# Altium integrated library robo_cam.IntLib: 230 symbols (part 4 of 5)
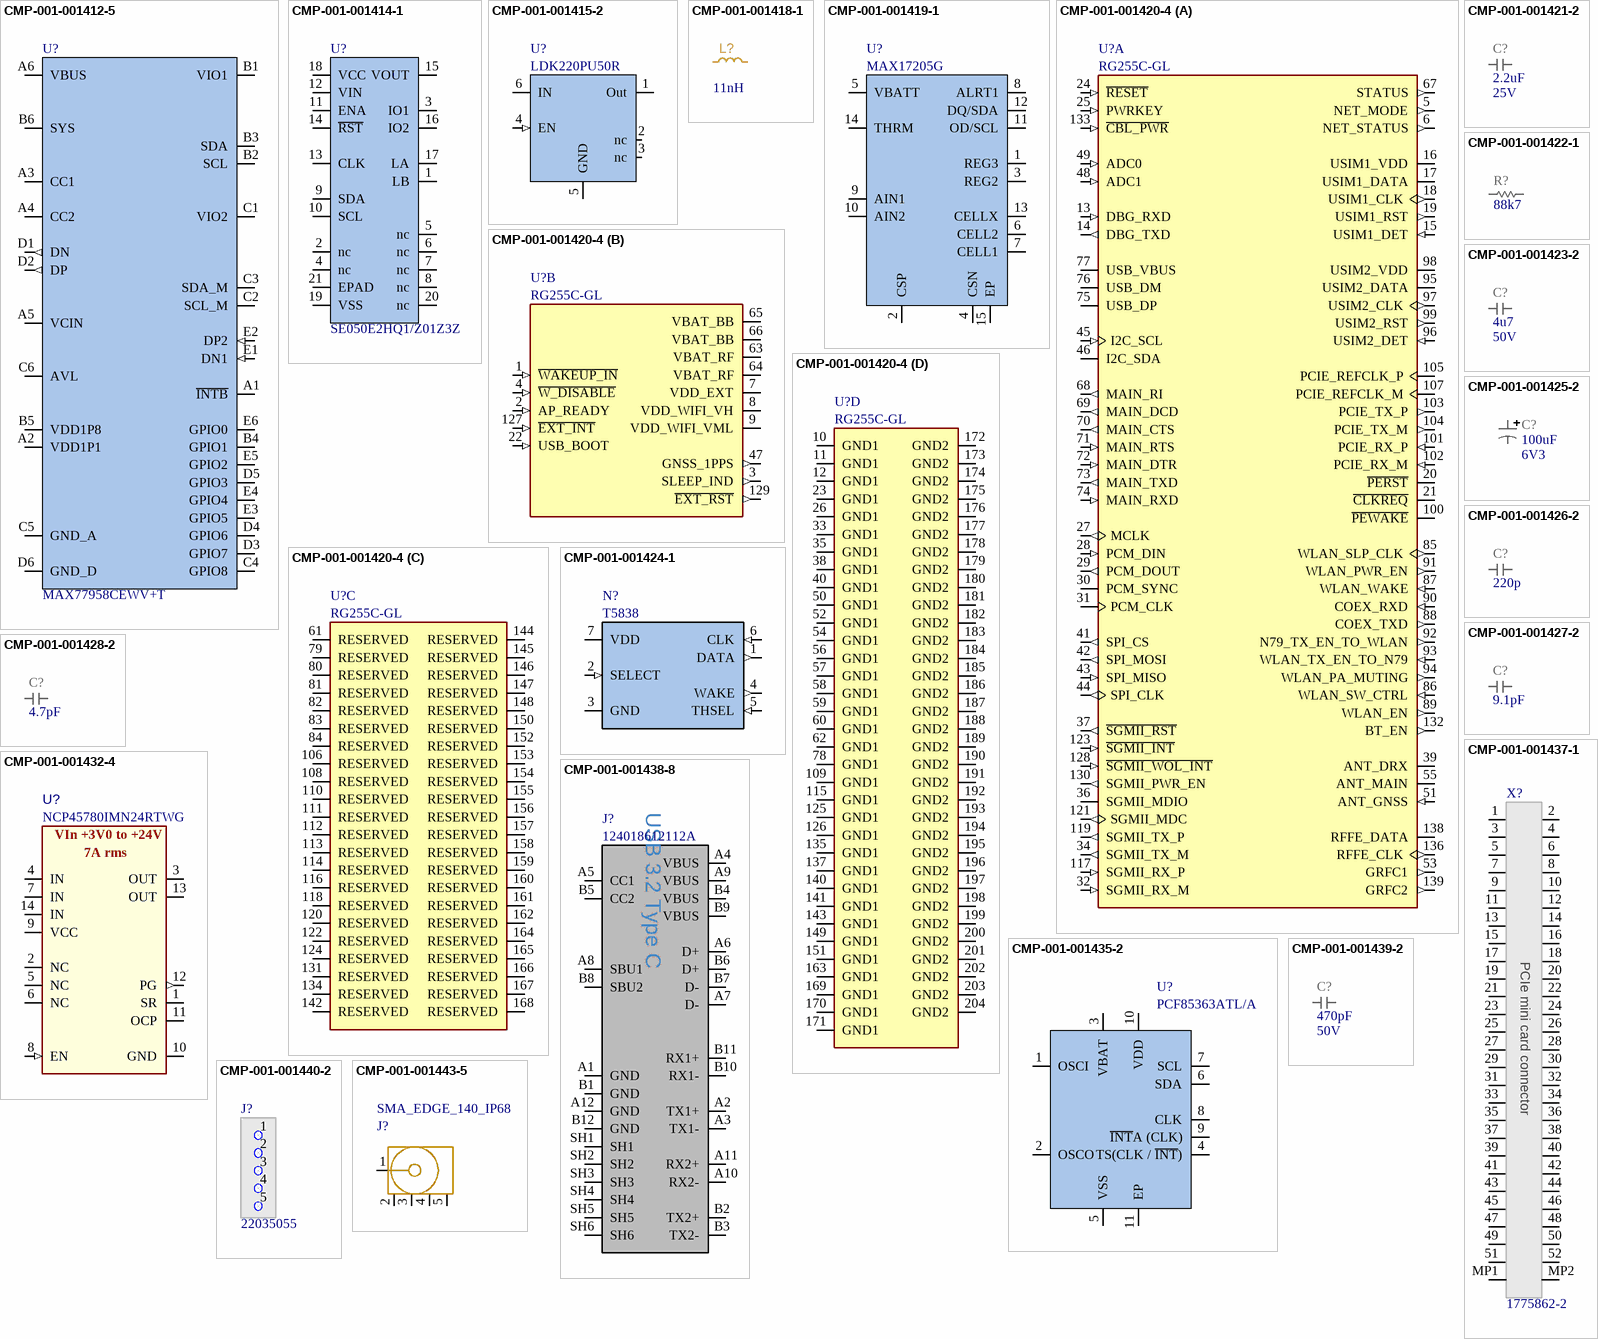
[diagram p14: symbols CMP-001-001412-5 to CMP-001-001443-5]

## CMP-001-001432-4
designator U?, comment Part Number: NCP45780IMN24RTWG  (hidden comment: NCP45780)
Controlled Load Switch 3V-24Vin, 7A; Manufacturer: ONSEMI; System: IC; Sort order: 501; ComponentLink3Description: 3_X-information; ComponentLink4Description: 4_X-information; Dimensions WxLxH: 3.0 x 3.0 x 1.0 mm; Creation date: 20250611; ClassName: BIG; Operating temperature range: -40ºC to +85ºC; ComponentLink1Description: 1_Datasheet; ComponentLink1URL: https://www.onsemi.com/pdf/datasheet/ncp45780-d.pdf; ComponentLink2Description: 2_Product page; Package: 12-DFN; Manufacturer: onsemi; Manufacturer Part Number: NCP45780IMN24RTWG; Component Type: Power Supply
footprint DFN-12_NCP45780
pins: 1 SR (power), 2 NC (power), 3 OUT (power), 4 IN (power), 5 NC (power), 6 NC (power), 7 IN (power), 8 EN (in), 9 VCC (power), 10 GND, 11 OCP, 12 PG (out), 13 OUT (power), 14 IN (power)
text: VIn +3V0 to +24V; 7A rms

## CMP-001-001435-2
designator U?, comment PCF85363ATL/A
Tiny Real-Time Clock, I2C; Manufacturer: NXP; Manufacturer: NXP Semiconductors; Sort order: 451; System: IC; ClassName: BIG; ComponentLink1Description: 1_Datasheet; ComponentLink1URL: https://www.nxp.com/docs/en/data-sheet/PCF85363A.pdf; ComponentLink2Description: 2_Product page; ComponentLink2URL: https://www.nxp.com/products/analog-and-mixed-signal/real-time-clocks/tiny-real-time-clock-calendar-with-64-b-ram-alarm-function-battery-switch-over-time-stamp-input-and-ic-bus:PCF85363A; ComponentLink3Description: 3_X-information; ComponentLink4Description: 4_X-information; Creation date: 20210901; Dimensions WxLxH: 2.6x2.6x0.5; Operating temperature range: -40 .... +85 °C; Package: DFN2626-10; Part Number: PCF85363ATL/A; ECCN: EAR99; Design Item ID: PCF85363ATL/A; RoHS: RoHS 2; Manufacturer Part Number: PCF85363ATL/A; Component Type: Timing
footprint DFN2626-10_NXP (DFN2626 10 pin pitch 0.5)
pins: 1 OSCI, 2 OSCO, 3 VBAT (power), 4 TS(CLK / ~{INT}), 5 VSS, 6 SDA, 7 SCL, 8 CLK, 9 ~{INT}A (CLK), 10 VDD, 11 EP

## CMP-001-001437-1
designator X?, comment Part Number: 1775862-2  (hidden comment: 1775862-2_TE)
TE PCIe connector, 52 pins, height 4 mm; Manufacturer: TE Connectivity; Sort order: 111; ClassName: BIG; ComponentLink1Description: 1_Datasheet; ComponentLink1URL: https://www.te.com/commerce/DocumentDelivery/DDEController?Action=srchrtrv&DocNm=8-1773459-7_EXPRESS_MINI_CARD_QRG&DocType=Data%20Sheet&DocLang=English&DocFormat=pdf&PartCntxt=1775862-2; ComponentLink2Description: 2_Product page; ComponentLink2URL: https://www.te.com/en/product-1775862-2.html; ComponentLink3Description: 3_X-information; ComponentLink4Description: 4_X-information; Creation date: 20250617; Dimensions WxLxH: 5.56 x 29.9 x 5.2mm; Manufacturer: TE; Operating temperature range: -55 ... +85 C; System: Connector; ECCN: EAR99; RoHS: RoHS 2; Manufacturer Part Number: 1775862-2; Component Type: Interface Connector
footprint mPCIe_TE_1775862-2 (mPCie 5.2H Type I G/F)
pins: 1, 2, 3, 4, 5, 6, 7, 8, 9, 10, 11, 12, 13, 14, 15, 16, 17, 18, 19, 20, 21, 22, 23, 24, 25, 26, 27, 28, 29, 30, 31, 32, 33, 34, 35, 36, 37, 38, 39, 40, 41, 42, 43, 44, 45, 46, 47, 48, 49, 50, 51, 52, MP1, MP2
text: PCIe mini card connector

## CMP-001-001438-8
designator J?, comment Part Number: 124018612112A  (hidden comment: USB_C_AMPHENOL_124018612112A)
USB3.2 GEN1, Type C, Top mount, CH 1.50mm, Dual Row SMT, IPX8; Manufacturer Part Number: 12402082E512A; Sort order: 101; System: Connector; ClassName: BIG; ComponentLink1Description: 1_Datasheet; ComponentLink1URL: https://cdn.amphenol-cs.com/media/wysiwyg/files/documentation/datasheet/inputoutput/io_usb_type_c.pdf; ComponentLink2Description: 2_Product page; ComponentLink2URL: https://www.amphenol-cs.com/product/124018612112a.html; ComponentLink3Description: 3_X-information; ComponentLink4Description: 4_X-information; Operating temperature range: -40C to +85C; Creation date: 20250617; Manufacturer: Amphenol; ECCN: EAR99; Design Item ID: USB_C_AMPHENOL_124018612112A; RoHS: RoHS 3; Component Type: Interface Connector
footprint USB_C_AMPHENOL_124018612112A (USB3.2 GEN1, Type C, Top mount, CH 1.50mm, Dual Row SMT, IPX8)
pins: A1 GND, A2 TX1+, A3 TX1-, A4 VBUS, A5 CC1, A6 D+, A7 D-, A8 SBU1, A9 VBUS, A10 RX2-, A11 RX2+, A12 GND, B1 GND, B2 TX2+, B3 TX2-, B4 VBUS, B5 CC2, B6 D+, B7 D-, B8 SBU2, B9 VBUS, B10 RX1-, B11 RX1+, B12 GND, SH1, SH2, SH3, SH4, SH5, SH6
text: USB 3.2 Type C

## CMP-001-001439-2
designator C?, comment value 470pF  Voltage: 50V  (hidden comment: CAP_0402_470p_50V)
CAP; Part Number: CC0402JPNPO9BN471; Manufacturer: YAGEO; Tolerance: +/-5%; Alternative component: Allowed; HasBeenBuilt: TBD; Sort order: 304; Temperature characteristics: C0G; System: RLC; ComponentLink4Description: 4_X-information; Creation date: 20250625; Package: 0402; ComponentLink3Description: 3_X-information; ComponentLink2Description: 2_Product page; ComponentLink1Description: 1_Datasheet; Component Type: Capacitor
footprint CAP_0402_UN1Q (Chip Capacitor 0402)
pins: 1, 2

## CMP-001-001440-2
designator J?, comment Part Number: 22035055  (hidden comment: Molex_22035055)
2.50mm Pitch, Mini-SPOX PCB Header, Single Row, Vertical, Through Hole, Tin Plating, 5 Circuits, 3.50mm PC Tail Length; Manufacturer: Molex; Sort order: 111; System: Connector; ComponentLink1Description: 1_Datasheet; ComponentLink1URL: https://www.molex.com/en-us/products/part-detail/22035055?display=pdf; ComponentLink2Description: 2_Product page; ComponentLink2URL: https://www.molex.com/en-us/products/part-detail/22035055; ComponentLink3Description: 3_X-information; ComponentLink4Description: 4_X-information; Operating temperature range: -55° to +105°C; Creation date: 20250618; Dimensions WxLxH: 13.75 x 15.15 x 10 mm; ClassName: BIG; ECCN: EAR99; RoHS: RoHS 2; Component Type: Header
footprint HEADER_5P_Molex_22035055 (Headers & Wire Housings 2.5 VERT HDR SPOX 5 shrouded)
pins: 1, 2, 3, 4, 5

## CMP-001-001443-5
designator J?, comment SMA_EDGE_140_IP68
SMA, PCB EDGE, IP68, IP69K; Part Number: RFPC_SMA23_FN_140_A; Manufacturer: GCT; Sort order: 111; System: Connector; Operating temperature range: -65°C to +165°C; ComponentLink1Description: 1_Datasheet; ComponentLink1URL: https://gct.co/connector/rfpc-sma23-fn; ComponentLink2Description: 2_Product page; ComponentLink2URL: https://gct.co/connector/rfpc-sma23-fn; ComponentLink3Description: 3_X-information; ComponentLink4Description: 4_X-information; Creation date: 20250619; Package: SMA; Design Item ID: RFPC_SMA23_FN_140_A; ECCN: EAR99; ClassName: BIG; Component Type: RF Connector
footprint CON_SMA_PCB_EDGE_GCT_1_2MM (SMA PCB EDGE, PCB 1.2 MM)
pins: 1, 2, 3, 4, 5

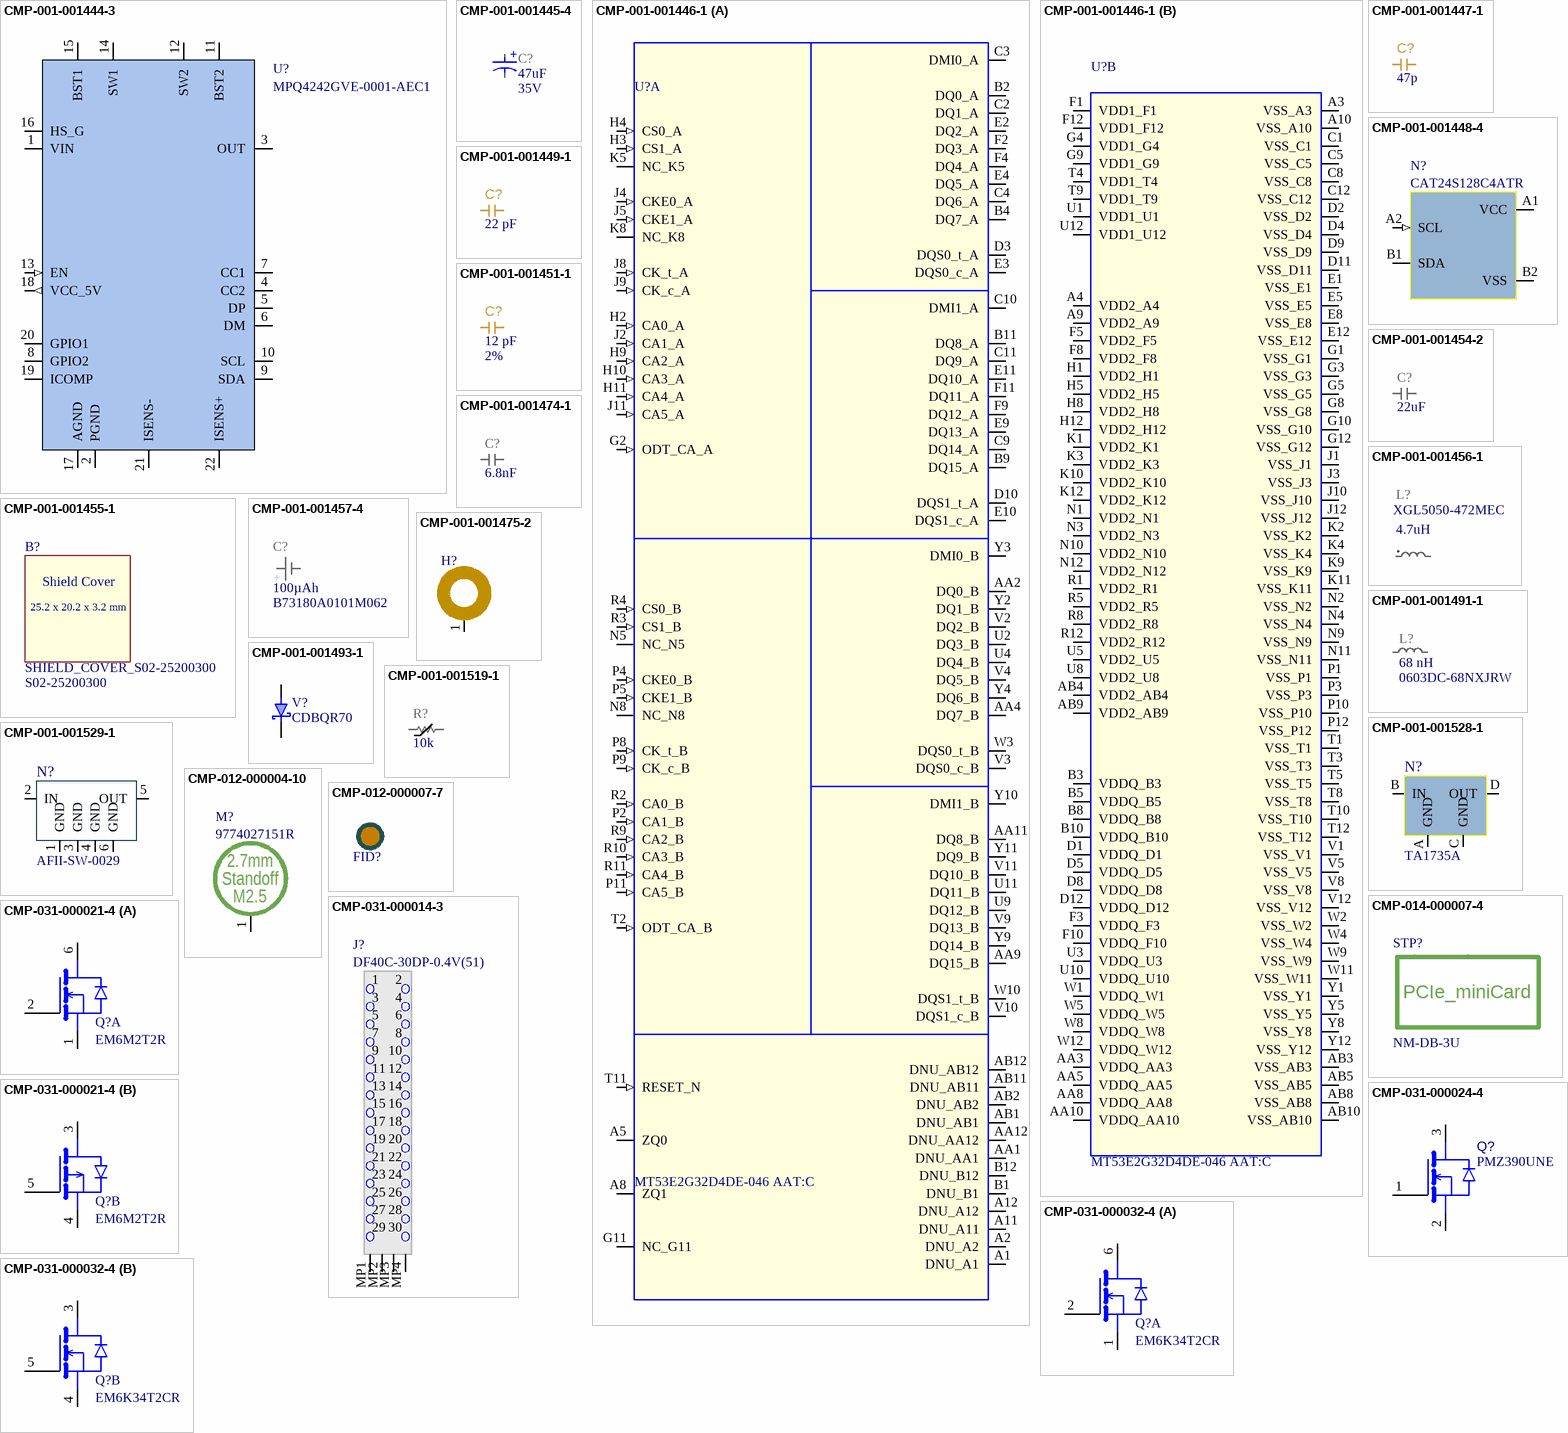
[diagram p9: symbols CMP-001-001444-3 to CMP-031-000032-4]

## CMP-001-001444-3
designator U?, comment MPQ4242GVE-0001-AEC1
Automotive single-port USB Type-C PD controller with buck-boost regulator. VIn=4.8V to 36V. Vout=3.3V to 22.5V.; Manufacturer: MPS; System: IC; Sort order: 501; ComponentLink1Description: 1_Datasheet; ComponentLink2Description: 2_Product page; Design Item ID: MPQ4242GVE-0001-AEC1; Creation date: 20250624; Dimensions WxLxH: 4.0 x 5.0 x 1.0mm; ComponentLink4Description: 4_X-information; Operating temperature range: -40 ... +85 °C; ComponentLink3Description: 3_X-information; ComponentLink1URL: https://www.monolithicpower.com/en/documentview/productdocument/index/version/2/document_type/Datasheet/lang/en/sku/MPQ4242GVE-AEC1/document_id/11470/; Package: QFN-22; Part Number: MPQ4242GVE-0001-AEC1; ComponentLink2URL: https://www.monolithicpower.com/en/products/automotive-aecq-grade/usb-charging-and-wireless-charging/mpq4242b-aec1.html; Component Type: Power Supply
footprint MPQ4242_MPS (4.0 x 5.0 x 1.0mm QFN-22)
pins: 1 VIN, 2 PGND, 3 OUT, 4 CC2, 5 DP, 6 DM, 7 CC1, 8 GPIO2, 9 SDA, 10 SCL, 11 BST2, 12 SW2, 13 EN (in), 14 SW1, 15 BST1, 16 HS_G, 17 AGND, 18 VCC_5V (out), 19 ICOMP, 20 GPIO1, 21 ISENS-, 22 ISENS+

## CMP-001-001445-4
designator C?, comment value 47uF  Voltage: 35V  (hidden comment: CAP_RAD_ALUM_47uF_35V_WURTH)
CAP Aluminium Electrolytic 6.6 x 6.6 x 5.5mm; Manufacturer: Wurth; Part Number: 865080543009; Manufacturer: Wurth Elektronik; Sort order: 308; System: RLC; Temperature characteristics: -55C ... +105C; Tolerance: +/-20%; ComponentLink3Description: 3_X-information; Creation date: 20250703; ComponentLink4Description: 4_X-information; ComponentLink2URL: https://www.we-online.com/en/components/products/WCAP-ASLI?sq=865080543009#865080543009; ClassName: BIG; ComponentLink1URL: https://www.we-online.com/components/products/datasheet/865080543009.pdf; ComponentLink1Description: 1_Datasheet; Package: CAN; Dimensions WxLxH: 6.6mm x 6.6 x 5.5mm; ComponentLink2Description: 2_Product page; Manufacturer Part Number: 865080543009; Component Type: Capacitor
footprint WCAP-ASLI_D6.3H5_5_Wurth (Radial 6.6 x 6.6 x 5.5mm aluminium capacitor)
pins: 1 "Anode", 2 "Cathode"
text: +

## CMP-001-001446-1
designator U?, comment MT53E2G32D4DE-046 AAT:C
MEM LPDDR4 SDRAM 2133MHz 2Gx32Gb 1.1V; Manufacturer: Micron; Sort order: 511; System: IC; ComponentLink1Description: 1_Datasheet; ComponentLink1URL: https://www.micron.com/products/memory/dram-components/lpddr4/part-catalog/part-detail/mt53e2g32d4de-046-aat-c#login-modal; ComponentLink2Description: 2_Product page; ComponentLink2URL: https://www.micron.com/products/memory/dram-components/lpddr4/part-catalog/part-detail/mt53e2g32d4de-046-aat-c; ComponentLink3Description: 3_X-information; ComponentLink4Description: 4_X-information; Creation Date: 20250619; Dimensions WxLxH: 10x14.5x1.2mm; Operating temperature range: -40 .... +105 °C; Package: TFBGA-200; ECCN: EAR99; ClassName: BIG; Design Item ID: MT53E2G32D4DE-046 AAT:C; Manufacturer Part Number: MT53E2G32D4DE-046 AAT:C; Component Type: Memory; Part Number: MT53E2G32D4DE-046 AAT:C
footprint BGA200C65P12X22_1000X1450X114 (BGA200)
part A pins: A1 DNU_A1, A2 DNU_A2, A5 ZQ0, A8 ZQ1, A11 DNU_A11, A12 DNU_A12, AA1 DNU_AA1, AA2 DQ0_B (io), AA4 DQ7_B (io), AA9 DQ15_B (io), AA11 DQ8_B (io), AA12 DNU_AA12, AB1 DNU_AB1, AB2 DNU_AB2, AB11 DNU_AB11, AB12 DNU_AB12, B1 DNU_B1, B2 DQ0_A (io), B4 DQ7_A (io), B9 DQ15_A (io), B11 DQ8_A (io), B12 DNU_B12, C2 DQ1_A (io), C3 DMI0_A (io), C4 DQ6_A (io), C9 DQ14_A (io), C10 DMI1_A (io), C11 DQ9_A (io), D3 DQS0_t_A (io), D10 DQS1_t_A (io), E2 DQ2_A (io), E3 DQS0_c_A (io), E4 DQ5_A (io), E9 DQ13_A (io), E10 DQS1_c_A (io), E11 DQ10_A (io), F2 DQ3_A (io), F4 DQ4_A (io), F9 DQ12_A (io), F11 DQ11_A (io), G2 ODT_CA_A (in), G11 NC_G11, H2 CA0_A (in), H3 CS1_A (in), H4 CS0_A (in), H9 CA2_A (in), H10 CA3_A (in), H11 CA4_A (in), J2 CA1_A (in), J4 CKE0_A (in), J5 CKE1_A (in), J8 CK_t_A (in), J9 CK_c_A (in), J11 CA5_A (in), K5 NC_K5, K8 NC_K8, N5 NC_N5, N8 NC_N8, P2 CA1_B (in), P4 CKE0_B (in), P5 CKE1_B (in), P8 CK_t_B (in), P9 CK_c_B (in), P11 CA5_B (in), R2 CA0_B (in), R3 CS1_B (in), R4 CS0_B (in), R9 CA2_B (in), R10 CA3_B (in), R11 CA4_B (in), T2 ODT_CA_B (in), T11 RESET_N (in), U2 DQ3_B (io), U4 DQ4_B (io), U9 DQ12_B (io), U11 DQ11_B (io), V2 DQ2_B (io), V3 DQS0_c_B (io), V4 DQ5_B (io), V9 DQ13_B (io), V10 DQS1_c_B (io), V11 DQ10_B (io), W3 DQS0_t_B (io), W10 DQS1_t_B (io), Y2 DQ1_B (io), Y3 DMI0_B (io), Y4 DQ6_B (io), Y9 DQ14_B (io), Y10 DMI1_B (io), Y11 DQ9_B (io)
part B pins: A3 VSS_A3 (power), A4 VDD2_A4 (power), A9 VDD2_A9 (power), A10 VSS_A10 (power), AA3 VDDQ_AA3 (power), AA5 VDDQ_AA5 (power), AA8 VDDQ_AA8 (power), AA10 VDDQ_AA10 (power), AB3 VSS_AB3 (power), AB4 VDD2_AB4 (power), AB5 VSS_AB5 (power), AB8 VSS_AB8 (power), AB9 VDD2_AB9 (power), AB10 VSS_AB10 (power), B3 VDDQ_B3 (power), B5 VDDQ_B5 (power), B8 VDDQ_B8 (power), B10 VDDQ_B10 (power), C1 VSS_C1 (power), C5 VSS_C5 (power), C8 VSS_C8 (power), C12 VSS_C12 (power), D1 VDDQ_D1 (power), D2 VSS_D2 (power), D4 VSS_D4 (power), D5 VDDQ_D5 (power), D8 VDDQ_D8 (power), D9 VSS_D9 (power), D11 VSS_D11 (power), D12 VDDQ_D12 (power), E1 VSS_E1 (power), E5 VSS_E5 (power), E8 VSS_E8 (power), E12 VSS_E12 (power), F1 VDD1_F1 (power), F3 VDDQ_F3 (power), F5 VDD2_F5 (power), F8 VDD2_F8 (power), F10 VDDQ_F10 (power), F12 VDD1_F12 (power), G1 VSS_G1 (power), G3 VSS_G3 (power), G4 VDD1_G4 (power), G5 VSS_G5 (power), G8 VSS_G8 (power), G9 VDD1_G9 (power), G10 VSS_G10 (power), G12 VSS_G12 (power), H1 VDD2_H1 (power), H5 VDD2_H5 (power), H8 VDD2_H8 (power), H12 VDD2_H12 (power), J1 VSS_J1 (power), J3 VSS_J3 (power), J10 VSS_J10 (power), J12 VSS_J12 (power), K1 VDD2_K1 (power), K2 VSS_K2 (power), K3 VDD2_K3 (power), K4 VSS_K4 (power), K9 VSS_K9 (power), K10 VDD2_K10 (power), K11 VSS_K11 (power), K12 VDD2_K12 (power), N1 VDD2_N1 (power), N2 VSS_N2 (power), N3 VDD2_N3 (power), N4 VSS_N4 (power), N9 VSS_N9 (power), N10 VDD2_N10 (power), N11 VSS_N11 (power), N12 VDD2_N12 (power), P1 VSS_P1 (power), P3 VSS_P3 (power), P10 VSS_P10 (power), P12 VSS_P12 (power), R1 VDD2_R1 (power), R5 VDD2_R5 (power), R8 VDD2_R8 (power), R12 VDD2_R12 (power), T1 VSS_T1 (power), T3 VSS_T3 (power), T4 VDD1_T4 (power), T5 VSS_T5 (power), T8 VSS_T8 (power), T9 VDD1_T9 (power), T10 VSS_T10 (power), T12 VSS_T12 (power), U1 VDD1_U1 (power), U3 VDDQ_U3 (power), U5 VDD2_U5 (power), U8 VDD2_U8 (power), U10 VDDQ_U10 (power), U12 VDD1_U12 (power), V1 VSS_V1 (power), V5 VSS_V5 (power), V8 VSS_V8 (power), V12 VSS_V12 (power), W1 VDDQ_W1 (power), W2 VSS_W2 (power), W4 VSS_W4 (power), W5 VDDQ_W5 (power), W8 VDDQ_W8 (power), W9 VSS_W9 (power), W11 VSS_W11 (power), W12 VDDQ_W12 (power), Y1 VSS_Y1 (power), Y5 VSS_Y5 (power), Y8 VSS_Y8 (power), Y12 VSS_Y12 (power)

## CMP-001-001447-1
designator C?, comment value 47p  (hidden comment: CAP_0201_47p_RF_MATCHING)
CAP_RF_MATCHING; Manufacturer: Murata; Part Number: GRM0335C1E470FA01; HasBeenBuilt: False; Remark: RF matching, use part number; System: RLC; Sort order: 202; Voltage: 25V; Tolerance: +/-1%; Temperature characteristics: C0G; ComponentLink1URL: https://www.murata.com/en-eu/products/productdetail?partno=GRM0335C1E470FA01%23; ECCN: EAR99; ComponentLink4Description: 4_X-information; Creation date: 20250624; RoHS: RoHS 3; ComponentLink2Description: 2_Product page; Package: 0201; ComponentLink1Description: 1_Datasheet; Operating temperature range: -55 ... +125C; ClassName: SMALL; ComponentLink3Description: 3_X-information; Component Type: Capacitor
footprint CAP_0201_UN1Q (Chip Capacitor 0201)
pins: 1, 2

## CMP-001-001448-4
designator N?, comment Part Number: CAT24S128C4ATR  (hidden comment: EEPROM_CAT24S128C4ATR)
EEPROM, I2C, 128kb, 4pin, BGA, 0.4 & 0.5mm pitch, WLCSP-4; Manufacturer: Onsemi; Sort order: 511; System: IC; ClassName: BIG; ComponentLink1Description: 1_Datasheet; ComponentLink1URL: https://www.onsemi.com/download/data-sheet/pdf/cat24s128-d.pdf; ComponentLink2Description: 2_Product page; ComponentLink2URL: https://www.onsemi.com/products/timing-logic-memory/memory/eeprom-memory/cat24s128; ComponentLink3Description: 3_X-information; ComponentLink4Description: 4_X-information; Creation Date: 20250625; Dimensions WxLxH: 0.87 x 0.87 x 0.35 mm; Operating temperature range: -40 .... +85 °C; Package: WLCSP-4; ECCN: EAR99; Design Item ID: EEPROM_CAT24S128C4ATR; RoHS: RoHS 3; Manufacturer: onsemi; Manufacturer Part Number: CAT24S128C4ATR; Component Type: Memory
footprint BGA4P40_ONSEMI_87X87X35 (Case 567KV)
pins: A1 VCC (power), A2 SCL (in), B1 SDA (io), B2 VSS (power)

## CMP-001-001449-1
designator C?, comment value 22 pF  (hidden comment: CAP_0201_22p_GJM_RF_MATCHING)
CAP_RF_MATCHING; Manufacturer: Murata; Part Number: GJM0335C1E220GB01; Manufacturer Part Number: GJM0335C1E220GB01D; Voltage: 25V; Tolerance: 2%; HasBeenBuilt: TBD; Sort order: 202; System: RLC; Remark: RF matching, use part number; Temperature characteristics: C0G; ComponentLink2Description: 2_Product page; ComponentLink1Description: 1_Datasheet; Operating temperature range: -55 ... +125C; ComponentLink4Description: 4_X-information; Creation date: 20250624; Source: RLC_UN1Q.SchLib; ComponentLink1URL: https://www.murata.com/en-eu/products/productdetail?partno=GJM0335C1E220GB01%23; ECCN: EAR99; ComponentLink3Description: 3_X-information; Package: 0201; ClassName: SMALL; RoHS: RoHS 3; Component Type: Capacitor
footprint CAP_0201_UN1Q (Chip Capacitor 0201)
pins: 1, 2

## CMP-001-001451-1
designator C?, comment value 12 pF  Tolerance: 2%  (hidden comment: CAP_0201_12p_GJM_RF_MATCHING)
CAP_RF_MATCHING; Part Number: GJM0335C1E120GB01; Manufacturer: Murata; Manufacturer Part Number: GJM0335C1E120GB01D; Temperature characteristics: C0G; Sort order: 202; System: RLC; HasBeenBuilt: TBD; Voltage: 25V; Remark: RF matching, use part number; ComponentLink4Description: 4_X-information; ClassName: SMALL; Package: 0201; ECCN: EAR99; ComponentLink2Description: 2_Product page; RoHS: RoHS 3; ComponentLink3Description: 3_X-information; ComponentLink1Description: 1_Datasheet; Operating temperature range: -55 ... +125C; ComponentLink1URL: https://www.murata.com/en-eu/products/productdetail?partno=GJM0335C1E220GB01%23; Creation date: 20250624; Source: RLC_UN1Q.SchLib; Component Type: Capacitor
footprint CAP_0201_UN1Q (Chip Capacitor 0201)
pins: 1, 2

## CMP-001-001454-2
designator C?, comment value 22uF  (hidden comment: CAP_1206_22uF_25V_X7S)
CAP; Part Number: GRM31CC71E226ME15L; Manufacturer: Murata; Tolerance: +/-20%; Sort order: 308; Alternative component: Allowed; Temperature characteristics: X7S; Voltage: 25V; System: RLC; Package: 1206; Operating temperature range: -55°C ~ 125°C; ComponentLink1Description: 1_Datasheet; ComponentLink2Description: 2_Product page; ComponentLink3Description: 3_X-information; ComponentLink4Description: 4_X-information; Creation date: 20250627; Manufacturer Part Number: GRM31CC71E226ME15L; Component Type: Capacitor
footprint CAP_1206_UN1Q (Chip Capacitor 1206)
pins: 1, 2

## CMP-001-001455-1
designator B?, comment SHIELD_COVER_S02-25200300  Part Number: S02-25200300  (mechanical)
Shield Cover 25.2mm x 20.2mm; Manufacturer: Harwin; System: EMECH; Sort order: 101; HasBeenBuilt: TBD; HasBeenChecked: None; Desc2: Shield Cover 25mm x 20mm; ComponentLink2Description: 2_Product page; Dimensions WxLxH: 25.2 x 20.2 x 3.2 mm; ComponentLink4Description: 4_X-information; Design Item ID: SHIELD_COVER_S02-25200300; ComponentLink2URL: https://www.harwin.com/products/S02-25200300; ComponentLink1Description: 1_Datasheet; ComponentLink1URL: https://www.harwin.com/api/download/?document=https://content.harwin.com/m/38c7f419459a0426/original/DRG-02145-Technical-Drawing-Datasheet-S02-XXXXXXX0-pdf.pdf; ComponentLink3Description: 3_X-information; Creation Date: 20250624; RoHS: RoHS 3; Manufacturer Part Number: S02-25200300; Component Type: Shield
footprint Copy of SHIELD_COVER_MS190-10C-NS-Footprint (Shield Cover MS190-10C)
text: Shield Cover

## CMP-001-001456-1
designator L?, comment value 4.7uH  Part Number: XGL5050-472MEC  (hidden comment: IND_XGL5050_4u7)
IND, Low DCR, shielded.; Manufacturer: Coilcraft; Sort order: 348; System: RLC; ComponentLink2Description: 2_Product_page; Operating temperature range: -40 ... +125 °C; ComponentLink4Description: 4_X-information; Package: 5050; Dimensions WxLxH: 5.3 x 5.5 x 5.1mm; ComponentLink1URL: https://www.coilcraft.com/en-us/products/power/shielded-inductors/molded-inductor/xgl/xgl5050/xgl5050-472/; ComponentLink2URL: https://www.coilcraft.com/en-us/products/power/shielded-inductors/molded-inductor/xgl/xgl5050/; Creation date: 20250708; ComponentLink1Description: 1_Datasheet; ClassName: BIG; ComponentLink3Description: 3_X-information; Manufacturer Part Number: XGL5050-472MEC; Component Type: Inductor
footprint IND_XGL5050 (XGL5050, shielded, 5.3 x 5.5 mm)
pins: 1, 2

## CMP-001-001457-4
designator C?, comment value 100µAh  Part Number: B73180A0101M062  (hidden comment: BAT_1812_100uAh)
EIA1812 1.5 V Lithium Ceramic Battery Rechargeable 100µAh; Manufacturer: TDK; Voltage: 1.6V; Sort order: 304; System: RLC; HasBeenBuilt: no; ComponentLink4URL: https://www.tdk-electronics.tdk.com/download/2532510/3794c3c09a5c15b9befc89bba989f38c/06-dl-application-note.pdf; RoHS: RoHS3; ComponentLink2Description: 2_Product page; ComponentLink1Description: 1_Datasheet; ECCN: EAR99; ComponentLink1URL: https://product.tdk.com/system/files/dam/doc/product/solid-state-batt/solid-state-batt/smd-assbs/ceracharge_bct1812m101ag.pdf; Dimensions WxLxH: 4.6 x 3.2 x 1.3 mm; ComponentLink2URL: https://product.tdk.com/en/search/solid-state-batt/solid-state-batt/smd-assbs/info?part_no=B73180A0101M062; ComponentLink4Description: 4_Application note; ComponentLink3URL: https://product.tdk.com/en/products/solid-state-batt/solid-state-batt/smd-assbs/index.html; Package: 2917; ComponentLink3Description: 3_Product page; Creation date: 20250630; Operating temperature range: -20C ... +80C; Component Type: Capacitor
footprint BAT_EIA1812_TDK (BATT LITH CER 1.5V EIA1812, height 1.5mm)
pins: 1 "Anode", 2 "Cathode"

## CMP-001-001474-1
designator C?, comment value 6.8nF  (hidden comment: CAP_0201_6n8_16V_X7R)
CAP; Part Number: GRM033R71C682KE14D; Manufacturer: Murata; Voltage: 16V; Tolerance: +/-10%; Temperature characteristics: X7R; Alternative component: Allowed; Sort order: 302; System: RLC; ComponentLink2Description: 2_Product page; Creation date: 20250706; ComponentLink1Description: 1_Datasheet; ClassName: SMALL; Package: 0201; ComponentLink3Description: 3_X-information; ComponentLink4Description: 4_X-information; Component Type: Capacitor
footprint CAP_0201_UN1Q (Chip Capacitor 0201)
pins: 1, 2

## CMP-001-001475-2
designator H?, comment HOLE_PTH_3mm_6mm  (value not drawn)  (no BOM)
HOLE PTH hole=3mm, copper=6mm; Sort order: 999; ComponentLink1URL: https://www.digikey.com/product-detail/en/linx-technologies-inc/CONSMA001-G/CONSMA001-G-ND/5012143; ComponentLink3Description: 3_X-information; ComponentLink2Description: 2_Product page; ComponentLink1Description: 1_Datasheet; ComponentLink4Description: 4_X-information; System: Hole; Creation date: 202507016; ClassName: BIG; Component Type: Connector
footprint HOLE_PTH_3mm_6mm (HOLE PTH hole=3mm, copper=6mm)
pins: 1

## CMP-001-001491-1
designator L?, comment value 68 nH  Part Number: 0603DC-68NXJRW  (hidden comment: IND_0603_68nH_Coilcraft_DC)
IND High Q Ceramic Chip; System: RLC; Tolerance: 10%; Sort order: 346; Dimensions WxLxH: 1.7 x 0.99 x 0.89; ComponentLink3Description: 3_X-information; Creation date: 20250807; ComponentLink1Description: 1_Datasheet; Package: 0603; ComponentLink1URL: https://www.coilcraft.com/en-us/products/rf/ceramic-core-chip-inductors/0603-(1608)/0603dc/?skuId=30647; Manufacturer: Coilcraft; ComponentLink2Description: 2_Product page; Operating temperature range: -55℃ to 125℃; ComponentLink4Description: 4_X-information; ECCN: EAR99; RoHS: RoHS 3; Manufacturer Part Number: 0603DC-68NXJRW; Component Type: Inductor
footprint IND_0603_Coilcraft_0603DC (Chip Inductor, 1.6x0.8mm)
pins: 1, 2

## CMP-001-001493-1
designator V?, comment Part Number: CDBQR70  (hidden comment: Schottky_0402_CDBQR70)
Schottky  Diode 30V 500mA; Manufacturer: Comchip Technology; Manufacturer: Comchip; Sort order: 421; Voltage: 70V; System: Discrete; Package: SOD-923F; Operating temperature range: -55...150°C; ComponentLink1Description: 1_Datasheet; ComponentLink1URL: https://assets.rs-online.com/image/upload/v1699406915/Datasheets/0c0aa1a1d19ad0a65b6b846b7a3f3714.pdf; Dimensions WxLxH: 1.05 x 0.5 x 0.55mm; ComponentLink2Description: 2_Product page; ComponentLink3Description: 3_X-information; ComponentLink4Description: 4_X-information; Creation date: 20250807; Source: UUDET_KOMPONENTIT.SchLib; ECCN: EAR99; RoHS: RoHS3; Manufacturer Part Number: CDBQR70; Component Type: Diode
footprint Schottky_SOD-923F (SOD882BD 1.0 x 0.6 x 0.55 mm)
pins: 1 CATHODE, 2 ANODE

## CMP-001-001519-1
designator R?, comment value 10k  (hidden comment: NTC_0402_10k_NCU)
NTC, 0402, B-constant 3,380K 25/50C; Part Number: NCU15XH103F60RC; Manufacturer: Murata; Tolerance: 1%; Voltage: 5V; Power Rating: TBD; Sort order: 325; HasBeenBuilt: False; Temperature characteristics: -55 ... 125C; System: RLC; Package: 0402; Operating temperature range: -40C ... +125C; ComponentLink1Description: 1_Datasheet; ComponentLink1URL: https://pim.murata.com/en-eu/pim/details/?partNum=NCU15XH103F60RC; ComponentLink2Description: 2_Product page; ComponentLink3Description: 3_X-information; ComponentLink4Description: 4_X-information; Creation date: 20250827; ECCN: EAR99; RoHS: RoHS3; Manufacturer Part Number: NCU15XH103F60RC; Component Type: Resistor
footprint RES_0402_UN1Q (Chip Resistor, 1.0x0.5mm)
pins: 1, 2

## CMP-001-001528-1
designator N?, comment TA1735A
867.5 MHz SAW Filter, IL 3.5 dB, 15 MHz BW; Manufacturer: TAI-SAW; Manufacturer: TST - Tamsan; Sort order: 701; System: RF; Part Number: TA1735A; Operating temperature range: -30 to +80 °C; Package: SM2016-4; Dimensions WxLxH: 1.6 x 2 x 0.90 mm; ComponentLink1Description: 1_Datasheet; ComponentLink1URL: https://www.taisaw.com/assets/PDF/TA1735A%20_Rev.1.0_.pdf; Creation date: 20250828; ECCN: EAR99; ComponentLink2Description: 2_Product page; ComponentLink3Description: 3_X-information; ComponentLink4Description: 4_X-information; RoHS: RoHS 3; Manufacturer Part Number: TA1735A; Component Type: RF Discrete
footprint TA1735A_SM2016-4 (SM2016-4, 1.6 x 2 4 pin)
pins: A GND, B IN "50 ohm terminal", C GND, D OUT "50 ohm terminal"

## CMP-001-001529-1
designator N?, comment AFII-SW-0029
902 - 928 MHz SAW Filter; Manufacturer: RFMi; Manufacturer: Abracon; Manufacturer Part Number: AFII-SW-0029-T; Sort order: 701; HasBeenBuilt: False; System: RF; Operating temperature range: -45 ... +85C; Package: 3030; Dimensions WxLxH: 3 x 3 x 1.25mm; ComponentLink1Description: 1_Datasheet; ComponentLink1URL: https://abracon.com/datasheets/AFII-SW-0029.pdf; Creation date: 20250828; Design Item ID: AFII-SW-0029; ECCN: EAR99; ComponentLink3Description: 3_X-information; ComponentLink2Description: 2_Product page; ComponentLink4Description: 4_X-information; RoHS: RoHS 3; Component Type: RF Discrete; Part Number: AFII-SW-0029
footprint SM3030_6PIN_H1_25 (3x3mm 6 pin, height 1.25mm)
pins: 1 GND, 2 IN "50 ohm terminal", 3 GND, 4 GND, 5 OUT "50 ohm terminal", 6 GND

## CMP-012-000004-10
designator M?, comment Part Number: 9774027151R  (hidden comment: Standoff_2_7mm_M25_WURTH)
Standoff 2.7 mm M2.5 Hole 3.7 mm; Manufacturer: WURTH; Manufacturer: Wurth Elektronik; Sort order: 101; HasBeenBuilt: Saluki3; ComponentLink1Description: 1_Datasheet; ComponentLink1URL: https://www.we-online.com/components/products/datasheet/9774027151R.pdf; Creation date: 20230621; Dimensions WxLxH: M2.5 5.1x4.0mm; ComponentLink2Description: 2_Product page; ComponentLink2URL: https://www.we-online.com/catalog/en/SMSI_SMT_STEEL_SPACER_M2_5_THREAD_INTERNAL; ComponentLink3Description: 3_X-information; ComponentLink4Description: 4_X-information; System: Standoff; ECCN: EAR99; Source: EMECH_UN1Q.SchLib; Design Item ID: Standoff_2_7mm_M25_WURTH; RoHS: RoHS3 with ex; Manufacturer Part Number: 9774027151R; Component Type: Standoff
footprint Standoff_2_7mm_M25_WURTH (Standoff 2.7 mm M2.5  Hole 3.7 mm)
pins: 1
text: 2.7mm; M2.5

## CMP-012-000007-7
designator FID?, comment Fiducial  (value not drawn)
Fiducial 0.98 mm; HasBeenBuilt: True; System: EMECH; Sort order: -; ComponentLink1Description: 1_Datasheet; ComponentLink2Description: 2_Product page; ComponentLink3Description: 3_X-information; Creation date: 20200101; ComponentLink4Description: 3_X-information; Part Number: Fiducial; Source: EMECH_UN1Q.SchLib; Design Item ID: Fiducial; Component Type: EMECH
footprint Fiducial (Fiducial 0.98 mm)

## CMP-014-000007-4
designator STP?, comment Part Number: NM-DB-3U  (hidden comment: PCIe_miniCard)  (no BOM)
Manufacturer: Doodle Labs; Sort order: 999; Remark: STEP; System: EMECH; ComponentLink1Description: 1_Datasheet; ComponentLink1URL: https://doodlelabs.com/wp-content/uploads/Doodle-Labs-NM-DB-3-Data-Sheet.pdf; ComponentLink2Description: 2_Product page; ComponentLink3Description: 3_X-information; ComponentLink4Description: 4_X-information; Design Item ID: PCIe_miniCard; Source: EMECH_UN1Q.SchLib; ClassName: STEP; Component Type: STEP Model
footprint PCIe_miniCard

## CMP-031-000014-3
designator J?, comment DF40C-30DP-0.4V(51)
Hirose DF40, 30 pin, Plug, pitch 0.4mm.; Manufacturer: HIROSE ELECTRIC; Sort order: 111; System: Connector; Manufacturer: Hirose; ClassName: BIG; ComponentLink1Description: 1_Datasheet; ComponentLink1URL: https://www.hirose.com/en/product/document?clcode=&productname=&series=DF40&documenttype=Catalog&lang=en&documentid=en_DF40_CAT; ComponentLink2Description: 2_Product_page; ComponentLink2URL: https://www.hirose.com/en/product/p/CL0684-4012-4-51; Creation date: 12032024; Dimensions WxLxH: 2.97x7.52x1.14mm; Operating temperature range: -55 ... +85 °C; Design Item ID: DF40C-30DP-0_4V(51)_Hirose; Source: UUDET_KOMPONENTIT.SchLib; ComponentLink3Description: 3_X-information; ComponentLink4Description: 4_X-information; Manufacturer Part Number: DF40C-30DP-0.4V(51); Component Type: Board to Board; Part Number: DF40C-30DP-0.4V(51)
footprint DF40C-30DP-0_4V_Hirose (Board to Board Plug 30 pin)
pins: 1, 2, 3, 4, 5, 6, 7, 8, 9, 10, 11, 12, 13, 14, 15, 16, 17, 18, 19, 20, 21, 22, 23, 24, 25, 26, 27, 28, 29, 30, MP1, MP2, MP3, MP4

## CMP-031-000021-4
designator Q?, comment EM6M2T2R
Dual Nch + Pch MOSFET 20V 200mA; Manufacturer: ROHM; Sort order: 501; HasBeenBuilt: CCB30_1; Remark: MFG package EMT6; System: IC; Part Number: EM6M2T2R; ClassName: BIG; ComponentLink1Description: 1_Datasheet; ComponentLink1URL: https://fscdn.rohm.com/en/products/databook/datasheet/discrete/transistor/mosfet/em6m2t2r-e.pdf; ComponentLink2Description: 2_Product page; ComponentLink3Description: 3_X-information; ComponentLink4Description: 4_X-information; Creation date: 20230614; Dimensions WxLxH: 1.6 x 1.6 x 0.5mm; Operating temperature range: -55 ... +155 °C; Package: SOT-563, SOT-666; Source: UUDET_KOMPONENTIT.SchLib; Manufacturer Part Number: EM6M2T2R; Component Type: Transistor
footprint SOT-563 (SOT-563, SOT-666, EMT6)
part A pins: 1 S, 2 G, 6 D
part B pins: 3 D, 4 S, 5 G

## CMP-031-000024-4
designator Q?, comment PMZ390UNE
NMOS Transistor, 30V; Manufacturer: Nexperia; Sort order: 447; HasBeenBuilt: CCB30_1; System: Discrete; Part Number: PMZ390UNE; ComponentLink1Description: 1_Datasheet; ComponentLink1URL: https://assets.nexperia.com/documents/data-sheet/PMZ390UNE.pdf; ComponentLink2Description: 2_Product page; ComponentLink3Description: 3_X-information; ComponentLink4Description: 4_X-information; Creation date: 20230913; Dimensions WxLxH: 1.0 × 0.6 × 0.48 mm; Operating temperature range: -55 ... +150 °C; Package: DFN1006-3(SOT883); ClassName: SMALL; Source: UUDET_KOMPONENTIT.SchLib; Manufacturer Part Number: PMZ390UNE; Component Type: Transistor
footprint SOT883_DFN1006-3_NEXPERIA (DFN1006-3 1.0 x 0.6)
pins: 1 G, 2 S, 3 D

## CMP-031-000032-4
designator Q?, comment EM6K34T2CR
Dual N-MOSFET 50V 200mA; Manufacturer: ROHM; Sort order: 501; HasBeenBuilt: CCB30_1; Remark: MFG package EMT6; System: IC; Part Number: EM6K34T2CR; ComponentLink1Description: 1_Datasheet; ComponentLink1URL: https://fscdn.rohm.com/en/products/databook/datasheet/discrete/transistor/mosfet/em6k34.pdf; ComponentLink2Description: 2_Product page; ComponentLink3Description: 3_X-information; ComponentLink4Description: 4_X-information; Creation date: 20230604; Dimensions WxLxH: 1.6 x 1.6 x 0.5mm; Operating temperature range: -55 ... +155 °C; Package: SOT-563, SOT-666; ClassName: BIG; Source: UUDET_KOMPONENTIT.SchLib; Manufacturer Part Number: EM6K34T2CR; Component Type: Transistor
footprint SOT-563 (SOT-563, SOT-666, EMT6)
part A pins: 1 S, 2 G, 6 D
part B pins: 3 D, 4 S, 5 G

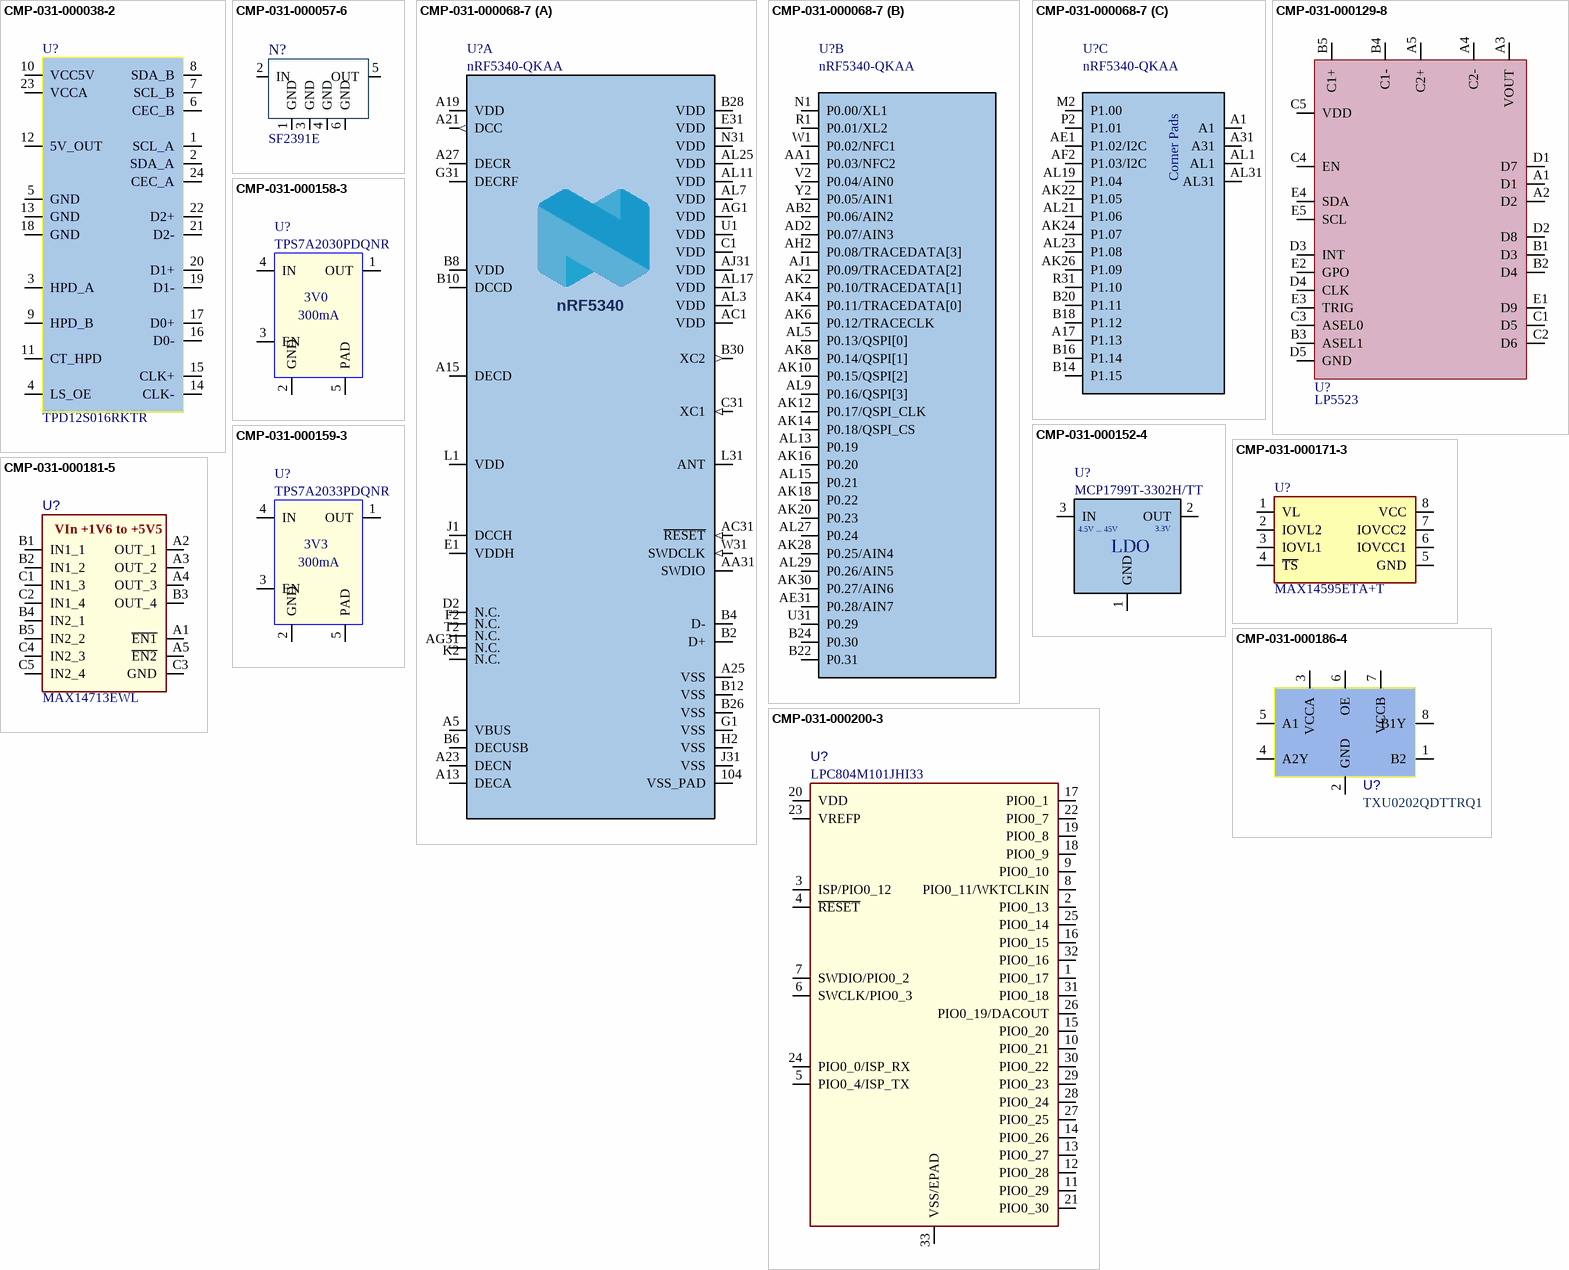
[diagram p10: symbols CMP-031-000038-2 to CMP-031-000200-3]

## CMP-031-000038-2
designator U?, comment Part Number: TPD12S016RKTR  (hidden comment: TPD12S016RKT)
HDMI ESD Protection and I2C Level Shifting Buffer; Manufacturer: Texas Instruments; System: IC; HasBeenBuilt: Saluki3_HW_RIB_2; Sort order: 405; ComponentLink1Description: 1_Datasheet; Dimensions WxLxH: 2.1x4.1x0.55; Source: UUDET_KOMPONENTIT.SchLib; Design Item ID: TPD12S016RKT; ComponentLink1URL: https://www.ti.com/lit/ds/symlink/tpd12s016.pdf; Package: UQFN24; ComponentLink4Description: 4_X-information; ComponentLink3Description: 3_X-information; ComponentLink2URL: https://www.ti.com/product/TPD12S016; ComponentLink2Description: 2_Product page; RoHS: RoHS3; Operating temperature range: -40... +85 °C; Creation Date: 20230510; ECCN: EAR99; Manufacturer Part Number: TPD12S016RKTR; Component Type: ESD & EMI
footprint UQFN24_RKT0024A_TI (UQFN24)
pins: 1 SCL_A, 2 SDA_A, 3 HPD_A, 4 LS_OE, 5 GND, 6 CEC_B, 7 SCL_B, 8 SDA_B, 9 HPD_B, 10 VCC5V, 11 CT_HPD, 12 5V_OUT, 13 GND, 14 CLK-, 15 CLK+, 16 D0-, 17 D0+, 18 GND, 19 D1-, 20 D1+, 21 D2-, 22 D2+, 23 VCCA, 24 CEC_A

## CMP-031-000057-6
designator N?, comment SF2391E
897.5 MHz SAW Filter, IL 2.5 dB; Manufacturer: RFMi; Sort order: 701; System: RF; HasBeenBuilt: MiniWing_01; Design Item ID: SF2391E; Part Number: SF2391E; ComponentLink1URL: https://www.rfmi.co/pdf/datasheet/SF2391E.pdf; Source: UUDET_KOMPONENTIT.SchLib; Operating temperature range: -20 ... +70C; ComponentLink3Description: 3_X-information; Package: 3030; ComponentLink4Description: 4_X-information; ComponentLink2Description: 2_Product page; ComponentLink1Description: 1_Datasheet; Dimensions WxLxH: 3 x 3 x 1.4mm; Creation date: 20231116; Manufacturer Part Number: SF2391E; Component Type: RF Discrete
footprint SM3030_6PIN (3x3mm 6 pin)
pins: 1 GND, 2 IN "50 ohm terminal", 3 GND, 4 GND, 5 OUT "50 ohm terminal", 6 GND

## CMP-031-000068-7
designator U?, comment nRF5340-QKAA
Multi-protocol Bluetooth Low Energy, IEEE 802.15.4, ANT and 2.4GHz proprietary SoC; Manufacturer: Nordic Semiconductor; Part Number: nRF5340-QKAADA; System: RF; HasBeenBuilt: False; Sort order: 721; ECCN: 5A992.2; Design Item ID: nRF5340-QKAA; Source: UUDET_KOMPONENTIT.SchLib; ComponentLink3Description: 3_X-information; Creation Date: 20210217; ComponentLink2Description: 2_Product page; Package: AQFN-98; ComponentLink1Description: 1_Datasheet; ComponentLink4Description: 4_X-information; ClassName: BIG; ComponentLink2URL: https://www.nordicsemi.com/Products/nRF5340; Manufacturer Part Number: nRF5340-QKAADA; Component Type: RF IC
footprint NRF5340_AQFN40P_700X700X85 (AQFN40P)
part A pins: 104 VSS_PAD (power), A5 VBUS (power), A13 DECA (power), A15 DECD (power), A19 VDD (power), A21 DCC (out), A23 DECN (power), A25 VSS (power), A27 DECR (power), AA31 SWDIO (io), AC1 VDD (power), AC31 ~{RESET} (in), AG1 VDD (power), AG31 N.C., AJ31 VDD (power), AL3 VDD (power), AL7 VDD (power), AL11 VDD (power), AL17 VDD (power), AL25 VDD (power), B2 D+ (io), B4 D- (io), B6 DECUSB (power), B8 VDD (power), B10 DCCD (power), B12 VSS (power), B26 VSS (power), B28 VDD (power), B30 XC2 (out), C1 VDD (power), C31 XC1 (in), D2 N.C., E1 VDDH (power), E31 VDD (power), F2 N.C., G1 VSS (power), G31 DECRF (power), H2 VSS (power), J1 DCCH (power), J31 VSS (power), K2 N.C., L1 VDD (power), L31 ANT (io), N31 VDD (power), T2 N.C., U1 VDD (power), W31 SWDCLK (in)
part B pins: AA1 P0.03/NFC2 (io), AB2 P0.06/AIN2 (io), AD2 P0.07/AIN3 (io), AE31 P0.28/AIN7 (io), AH2 P0.08/TRACEDATA[3] (io), AJ1 P0.09/TRACEDATA[2] (io), AK2 P0.10/TRACEDATA[1] (io), AK4 P0.11/TRACEDATA[0] (io), AK6 P0.12/TRACECLK (io), AK8 P0.14/QSPI[1] (io), AK10 P0.15/QSPI[2] (io), AK12 P0.17/QSPI_CLK (io), AK14 P0.18/QSPI_CS (io), AK16 P0.20 (io), AK18 P0.22 (io), AK20 P0.23 (io), AK28 P0.25/AIN4 (io), AK30 P0.27/AIN6 (io), AL5 P0.13/QSPI[0] (io), AL9 P0.16/QSPI[3] (io), AL13 P0.19 (io), AL15 P0.21 (io), AL27 P0.24 (io), AL29 P0.26/AIN5 (io), B22 P0.31 (io), B24 P0.30 (io), N1 P0.00/XL1 (io), R1 P0.01/XL2 (io), U31 P0.29 (io), V2 P0.04/AIN0 (io), W1 P0.02/NFC1 (io), Y2 P0.05/AIN1 (io)
part C pins: A1, A17 P1.13 (io), A31, AE1 P1.02/I2C (io), AF2 P1.03/I2C (io), AK22 P1.05 (io), AK24 P1.07 (io), AK26 P1.09 (io), AL1, AL19 P1.04 (io), AL21 P1.06 (io), AL23 P1.08 (io), AL31, B14 P1.15 (io), B16 P1.14 (io), B18 P1.12 (io), B20 P1.11 (io), M2 P1.00 (io), P2 P1.01 (io), R31 P1.10 (io)
part A text: nRF5340
part C text: Corner Pads

## CMP-031-000129-8
designator U?, comment LP5523
RGB LED Driver, 9ch (3xRGB) DSBGA(25); Manufacturer: Texas Instruments; Part Number: LP5523TM/NOPB; HasBeenBuilt: Cmod2_01; Sort order: 451; System: IC; ComponentLink1Description: 1_Datasheet; ComponentLink1URL: https://www.ti.com/lit/ds/symlink/lp5523.pdf; ComponentLink2Description: 2_Product page; ComponentLink2URL: https://www.ti.com/product/LP5523?keyMatch=LP5523&tisearch=search-everything&usecase=GPN; ComponentLink3Description: 3_X-information; ComponentLink4Description: 4_X-information; Creation date: 20230210; Dimensions WxLxH: 2.26x2.26x0.675mm; Operating temperature range: -30 .... +85 °C; Package: DSBGA-25; Design Item ID: LP5523; Source: UUDET_KOMPONENTIT.SchLib; Manufacturer Part Number: LP5523TM/NOPB; Component Type: Amplifier & Driver
footprint BGA25P40_226X226X60_TI (BGA25 pitch 0.4mm)
pins: A1 D1 (power), A2 D2 (power), A3 VOUT (power), A4 C2- (power), A5 C2+ (power), B1 D3 (power), B2 D4 (power), B3 ASEL1 (power), B4 C1- (power), B5 C1+ (power), C1 D5 (power), C2 D6 (power), C3 ASEL0 (power), C4 EN (power), C5 VDD (power), D1 D7 (power), D2 D8 (power), D3 INT (power), D4 CLK (power), D5 GND (power), E1 D9 (power), E2 GPO (power), E3 TRIG (power), E4 SDA (power), E5 SCL (power)

## CMP-031-000152-4
designator U?, comment Part Number: MCP1799T-3302H/TT  (hidden comment: LDO_MCP1799)
LDO, Low Iq, Vin 35V, 80mA @ 3V3; Manufacturer: Microchip; Sort order: 457; Alternative component: MCP1799T-3302H/TTVAO (automotive); HasBeenBuilt: Cmod2_01; System: IC; Package: SOT-23; ComponentLink1Description: 1_Datasheet; ComponentLink1URL: https://ww1.microchip.com/downloads/aemDocuments/documents/APID/ProductDocuments/DataSheets/MCP1799-Data-Sheet-20006248B.pdf; Dimensions WxLxH: 3.05 x 2.64 x 1.05mm; Operating temperature range: -40 ... +150 °C; Creation date: 20220902; ClassName: BIG; Design Item ID: LDO_MCP1799; Source: UUDET_KOMPONENTIT.SchLib; ComponentLink2Description: 2_Product page; ComponentLink3Description: 3_X-information; ComponentLink4Description: 4_X-information; Manufacturer Part Number: MCP1799T-3302H/TT; Component Type: Power Supply
footprint SOT23_Microchip (SOT-23, 3 pins, 2.5 x 2.9 x 1.1mm for)
pins: 1 GND (power), 2 OUT (power), 3 IN (power)
text: 4.5V ... 45V; 3.3V; LDO

## CMP-031-000158-3
designator U?, comment Part Number: TPS7A2030PDQNR  (hidden comment: TPS7A20_3V0)
LDO 3V0 fixed 300-mA, Ultra-Low-Noise, Low-IQ, High PSRR; Manufacturer: Texas Instruments; Sort order: 451; System: IC; HasBeenBuilt: False; ComponentLink3Description: 3_X-information; ComponentLink2Description: 2_Product_page; ComponentLink1Description: 1_Datasheet; ComponentLink1URL: https://www.ti.com/lit/ds/symlink/tps7a20.pdf; ComponentLink2URL: https://www.ti.com/product/TPS7A20; Source: UUDET_KOMPONENTIT.SchLib; Package: X2SON; Creation date: 20231128; ComponentLink4Description: 4_X-information; Dimensions WxLxH: 1x1 mm; Design Item ID: TPS7A20_3V0; Operating temperature range: -40 ... +125C; Manufacturer Part Number: TPS7A2030PDQNR; Component Type: Power Supply
footprint X2SON4_DQN0004 (X2SON 1.05 x 1.05 x 0.4mm)
pins: 1 OUT (power) "Output of the regulator. There are no output capacitor requirements for stability.", 2 GND (power) "Ground", 3 EN, 4 IN (power) "Input supply", 5 PAD (power) "Ground"
text: 3V0; 300mA

## CMP-031-000159-3
designator U?, comment Part Number: TPS7A2033PDQNR  (hidden comment: TPS7A20_3V3)
LDO 3V3 fixed 300-mA, Ultra-Low-Noise, Low-IQ, High PSRR; Manufacturer: Texas Instruments; Sort order: 451; HasBeenBuilt: False; System: IC; Package: X2SON; ComponentLink1Description: 1_Datasheet; ComponentLink1URL: https://www.ti.com/lit/ds/symlink/tps7a20.pdf; Dimensions WxLxH: 1x1 mm; ComponentLink2Description: 2_Product_page; ComponentLink2URL: https://www.ti.com/product/TPS7A20; Operating temperature range: -40 ... +125C; Creation date: 04032024; Source: UUDET_KOMPONENTIT.SchLib; Design Item ID: TPS7A20_3V3; ComponentLink3Description: 3_X-information; ComponentLink4Description: 4_X-information; Manufacturer Part Number: TPS7A2033PDQNR; Component Type: Power Supply
footprint X2SON4_DQN0004 (X2SON 1.05 x 1.05 x 0.4mm)
pins: 1 OUT (power) "Output of the regulator. There are no output capacitor requirements for stability.", 2 GND (power) "Ground", 3 EN, 4 IN (power) "Input supply", 5 PAD (power) "Ground"
text: 3V3; 300mA

## CMP-031-000171-3
designator U?, comment MAX14595ETA+T
High speed, Open-Drain capable logic level translator. Pin compatible with MAX14591ETA.; Manufacturer: Maxim Integrated; Manufacturer: Maxim; HasBeenBuilt: Cmod2_01; Sort order: 501; System: IC; ClassName: BIG; ComponentLink1Description: 1_Datasheet; ComponentLink1URL: https://datasheets.maximintegrated.com/en/ds/MAX14595.pdf; ComponentLink2Description: 2_Product page; ComponentLink2URL: https://www.maximintegrated.com/en/products/interface/level-translators/MAX14595.html; ComponentLink3Description: 3_X-information; ComponentLink3URL: https://pdfserv.maximintegrated.com/land_patterns/90-0349.PDF; ComponentLink4Description: 4_X-information; Creation date: 20221104; Dimensions WxLxH: 2x2x0.8 mm; Operating temperature range: -40 ... +85 °C; Package: TDFN8; Source: UUDET_KOMPONENTIT.SchLib; Design Item ID: MAX14595ETA_T; Manufacturer Part Number: MAX14595ETA+T; Component Type: Integrated Circuit; Part Number: MAX14595ETA+T
footprint MAX14591_SON50P200X200X80-8N (MAX14591 Logic-level translator, 0.8mm height)
pins: 1 VL, 2 IOVL2, 3 IOVL1, 4 ~{TS}, 5 GND, 6 IOVCC1, 7 IOVCC2, 8 VCC

## CMP-031-000181-5
designator U?, comment Part Number: MAX14713EWL  (hidden comment: MAX14713EWL_v2)
Dual Input 6A Power Path Selector; Manufacturer: Analog Devices; HasBeenBuilt: False; Sort order: 501; System: IC; ClassName: BIG; ComponentLink1Description: 1_Datasheet; ComponentLink1URL: https://www.analog.com/media/en/technical-documentation/data-sheets/MAX14713.pdf; ComponentLink2Description: 2_Product page; ComponentLink2URL: https://www.analog.com/en/products/max14713.html#product-overview; ComponentLink3Description: 3_X-information; ComponentLink3URL: https://www.analog.com/media/en/package-pcb-resources/package/pkg_pdf/wlp/21-1031.pdf; Creation date: 29022024; Dimensions WxLxH: 1.2 x 2.0 x 0.69 mm; Operating temperature range: -40ºC to +85ºC; Package: WLP15; Design Item ID: MAX14713EWL_v2; Source: UUDET_KOMPONENTIT.SchLib; ComponentLink4Description: 4_X-information; Manufacturer Part Number: MAX14713EWL; Component Type: Power Supply
footprint BGA15P40_207X124X69_AD
pins: A1 ~{EN1}, A2 OUT_1, A3 OUT_2, A4 OUT_3, A5 ~{EN2}, B1 IN1_1, B2 IN1_2, B3 OUT_4, B4 IN2_1, B5 IN2_2, C1 IN1_3, C2 IN1_4, C3 GND, C4 IN2_3, C5 IN2_4
text: VIn +1V6 to +5V5

## CMP-031-000186-4
designator U?, comment TXU0202QDTTRQ1
2-bit level shifter; Manufacturer: Texas Instruments; Sort order: 459; HasBeenBuilt: Saluki3; System: IC; Part Number: TXU0202QDTTRQ1; Package: X1SON8; Dimensions WxLxH: 1.05 x 2.0 x 0.5 mm; Creation date: 20230509; Operating temperature range: -40 ... +125 °C; ComponentLink1Description: 1_Datasheet; ComponentLink1URL: https://www.ti.com/lit/ds/symlink/txu0202-q1.pdf; ComponentLink2Description: 2_Product_page; ComponentLink2URL: https://www.ti.com/product/TXU0202; ComponentLink3Description: 3_X-information; ComponentLink4Description: 4_X-information; ComponentLink3URL: https://www.ti.com/lit/ml/mpss150a/mpss150a.pdf; Design Item ID: TXU0202QDTTRQ1; ECCN: EAR99; RoHS: RoHS3; Source: UUDET_KOMPONENTIT.SchLib; Manufacturer Part Number: TXU0202QDTTRQ1; Component Type: Logic
footprint X1SON8_TI (SON8 1x2 mm Pitch 0.5)
pins: 1 B2, 2 GND, 3 VCCA, 4 A2Y, 5 A1, 6 OE, 7 VCCB, 8 B1Y

## CMP-031-000200-3
designator U?, comment LPC804M101JHI33
MCU Arm Cortex-M0+ 32-bit Microcontroller, 1.71V to 3.6V; Manufacturer: NXP; Manufacturer: NXP Semiconductors; HasBeenBuilt: False; Sort order: 501; System: IC; ClassName: BIG; ComponentLink1Description: 1_Datasheet; ComponentLink1URL: https://www.nxp.com/docs/en/nxp/data-sheets/LPC804_DS.pdf; ComponentLink2Description: 2_Product page; ComponentLink3Description: 3_X-information; ComponentLink4Description: 4_X-information; Creation date: 04032024; Dimensions WxLxH: 5.0x5.0x0.85mm; Operating temperature range: -40... +105°C; Package: HVQFN33; Design Item ID: LPC804UKAZ_HVQFN33; Source: UUDET_KOMPONENTIT.SchLib; Manufacturer Part Number: LPC804M101JHI33; Component Type: Processor; Part Number: LPC804M101JHI33
footprint QFN50P500X500X85_33
pins: 1 PIO0_17, 2 PIO0_13, 3 ISP/PIO0_12 , 4 ~{RESET}, 5 PIO0_4/ISP_TX, 6 SWCLK/PIO0_3, 7 SWDIO/PIO0_2, 8 PIO0_11/WKTCLKIN, 9 PIO0_10, 10 PIO0_21, 11 PIO0_29, 12 PIO0_28, 13 PIO0_27, 14 PIO0_26, 15 PIO0_20, 16 PIO0_15, 17 PIO0_1, 18 PIO0_9, 19 PIO0_8, 20 VDD, 21 PIO0_30, 22 PIO0_7, 23 VREFP, 24 PIO0_0/ISP_RX, 25 PIO0_14, 26 PIO0_19/DACOUT, 27 PIO0_25, 28 PIO0_24, 29 PIO0_23, 30 PIO0_22, 31 PIO0_18, 32 PIO0_16, 33 VSS/EPAD

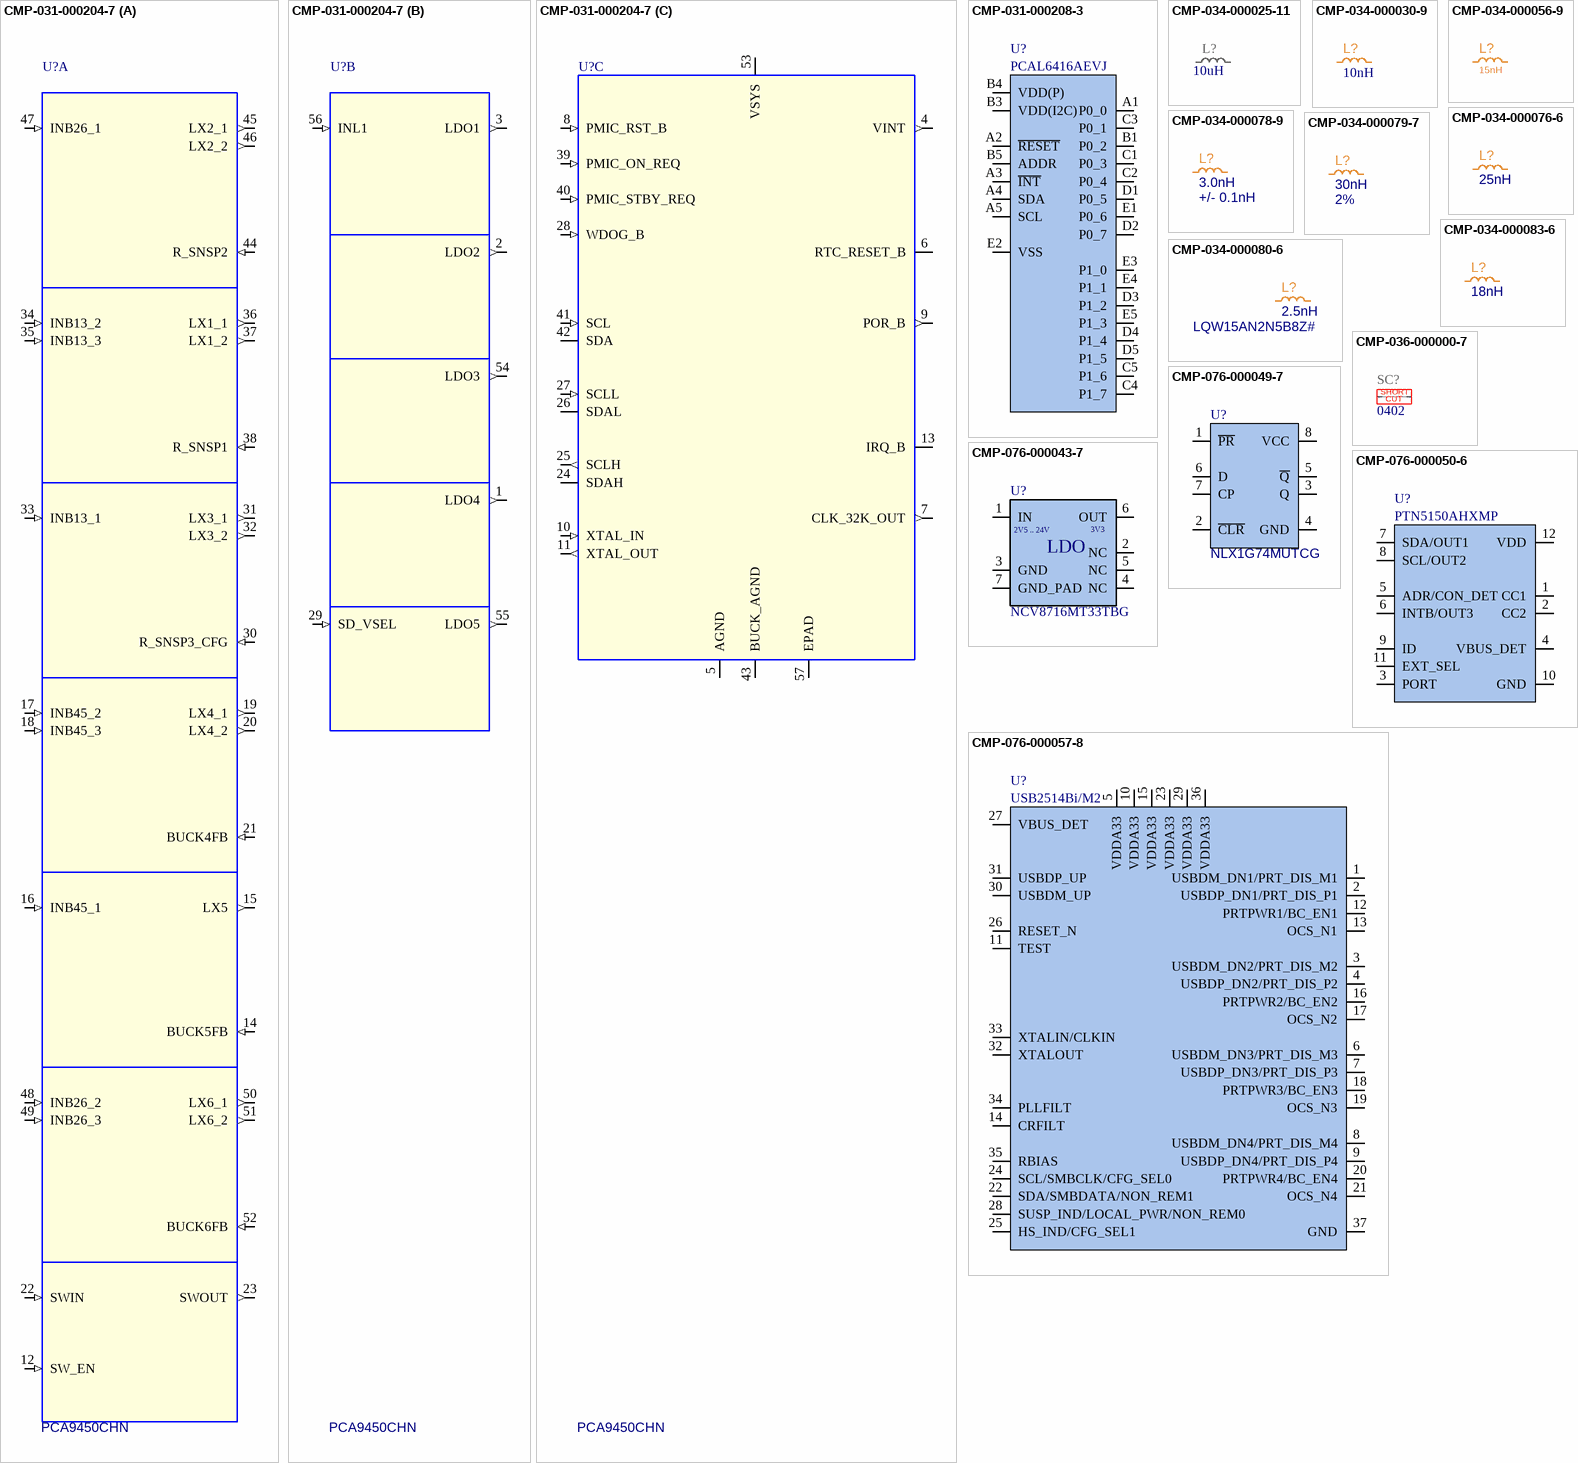
[diagram p11: symbols CMP-031-000204-7 to CMP-076-000057-8]

## CMP-031-000204-7
designator U?, comment Part Number: PCA9450CHN  (hidden comment: PCA9450_HVQFN56P_A)
POWER MANAGEMENT 2.7-5.5V HVQFN56; Manufacturer: NXP SEMICONDUCTORS; Sort order: 451; System: IC; ComponentLink1Description: 1_Datasheet; ComponentLink1URL: https://www.nxp.com/products/power-management/pmics-and-sbcs/pmics/power-management-ic-pmic-for-i-mx-8m-mini-nano-plus:PCA9450; ComponentLink2Description: 2_Product page; ComponentLink3Description: 3_X-information; ComponentLink4Description: 4_X-information; Creation date: 20240207; Dimensions WxLxH: 7.0x7.0x1.0; Operating temperature range: -40 .... +105 °C; Package: QFN56; Source: UUDET_KOMPONENTIT.SchLib; ClassName: BIG; Design Item ID: PCA9450CHN; Manufacturer Part Number: PCA9450CHN; Component Type: Power Supply
footprint QFN57P40_700X700X100NXP (QFN56 + pad NXP)
part A pins: 12 SW_EN (in), 14 BUCK5FB (in), 15 LX5 (out), 16 INB45_1 (in), 17 INB45_2 (in), 18 INB45_3 (in), 19 LX4_1 (out), 20 LX4_2 (out), 21 BUCK4FB (in), 22 SWIN (in), 23 SWOUT (out), 30 R_SNSP3_CFG (in), 31 LX3_1 (out), 32 LX3_2 (out), 33 INB13_1 (in), 34 INB13_2 (in), 35 INB13_3 (in), 36 LX1_1 (out), 37 LX1_2 (out), 38 R_SNSP1 (in), 44 R_SNSP2 (in), 45 LX2_1 (out), 46 LX2_2 (out), 47 INB26_1 (in), 48 INB26_2 (in), 49 INB26_3 (in), 50 LX6_1 (out), 51 LX6_2 (out), 52 BUCK6FB (in)
part B pins: 1 LDO4 (out), 2 LDO2 (out), 3 LDO1 (out), 29 SD_VSEL (in), 54 LDO3 (out), 55 LDO5 (out), 56 INL1 (in)
part C pins: 4 VINT (out), 5 AGND (power), 6 RTC_RESET_B (oc), 7 CLK_32K_OUT (out), 8 PMIC_RST_B (in), 9 POR_B (out), 10 XTAL_IN (in), 11 XTAL_OUT (out), 13 IRQ_B (oc), 24 SDAH (io), 25 SCLH (out), 26 SDAL (io), 27 SCLL (in), 28 WDOG_B (in), 39 PMIC_ON_REQ (in), 40 PMIC_STBY_REQ (in), 41 SCL (in), 42 SDA (io), 43 BUCK_AGND (power), 53 VSYS (power), 57 EPAD (power)

## CMP-031-000208-3
designator U?, comment Part Number: PCAL6416AEVJ  (hidden comment: PCAL6416AEVJ_VFBGA24)
I/O Expander 16-Bit I²C, SMBus, 0.5mm pitch; Manufacturer: NXP; Manufacturer: NXP Semiconductors; HasBeenBuilt: Saluki3S_1; Sort order: 501; System: IC; ComponentLink1Description: 1_Datasheet; ComponentLink1URL: https://www.nxp.com/docs/en/data-sheet/PCAL6416A.pdf; ComponentLink2Description: 2_Product page; Creation Date: 21122023; Dimensions WxLxH: 3.0 x 3.0 x  1.0mm; Operating temperature range: -40 .... +85 °C; Package: VFBGA24; ECCN: EAR99; Source: UUDET_KOMPONENTIT.SchLib; Design Item ID: PCAL6416AEVJ_VFBGA24; ComponentLink4Description: 4_X-information; ComponentLink3Description: 3_Product_page; RoHS: RoHS3; Manufacturer Part Number: PCAL6416AEVJ; Component Type: Integrated Circuit
footprint VFBGA24P50_300X300X100_NXP
pins: A1 P0_0, A2 ~{RESET}, A3 ~{INT}, A4 SDA, A5 SCL, B1 P0_2, B3 VDD(I2C) (power), B4 VDD(P) (power), B5 ADDR, C1 P0_3, C2 P0_4, C3 P0_1, C4 P1_7, C5 P1_6, D1 P0_5, D2 P0_7, D3 P1_2, D4 P1_4, D5 P1_5, E1 P0_6, E2 VSS (power), E3 P1_0, E4 P1_1, E5 P1_3

## CMP-034-000025-11
designator L?, comment value 10uH  (hidden comment: IND_0603_10u_MLZ)
IND SHIELDED  MLZ1608M100WTD25; Manufacturer: TDK; Desc2: inductor_10uH_1R_250mA; Sort order: 346; Tolerance: 10%; HasBeenBuilt: False; Package: 0603; Dimensions WxLxH: 1.6 x 0.8 x 0.8 +-0.15; Part Number: MLZ1608M100WTD25; HasBeenChecked: False; ComponentLink1Description: 1_Datasheet; ComponentLink1URL: https://product.tdk.com/en/search/inductor/inductor/smd/info?part_no=MLZ1608M100WTD25; ComponentLink2Description: 2_Product page; ComponentLink3Description: 3_X-information; ComponentLink4Description: 4_X-information; Creation date: 20230111; Manufacturer Part Number: MLZ1608M100WTD25; Component Type: Inductor
footprint IND_0603_UN1Q (Chip Inductor, Body 1.6x0.8mm)
pins: 1, 2

## CMP-034-000030-9
designator L?, comment value 10nH  (hidden comment: IND_0201_10n_RF_MATCHING)
IND_RF_MATCHING; Manufacturer: Murata; Part Number: LQP03TN10NH02; Tolerance: +/- 3%; Remark: RF matching, use part number; HasBeenBuilt: TBD; System: RLC; Sort order: 206; Package: 0201; ComponentLink2Description: 2_Product page; ComponentLink3Description: 3_X-information; Creation date: 20200101; Source: RLC_UN1Q.SchLib; ComponentLink1Description: 1_Datasheet; Operating temperature range: -55°C ~ 125°C; ComponentLink4Description: 4_X-information; ClassName: SMALL; RoHS: RoHS3; Manufacturer Part Number: LQP03TN10NH02; Component Type: Inductor
footprint IND_0201_UN1Q (Chip Resistor, 0.6x0.3mm, IPC High Density)
pins: 1, 2

## CMP-034-000056-9
designator L?, comment value 15nH  (hidden comment: IND_0201_15n0_RF_MATCHING)
IND_RF_MATCHING; Part Number: LQP03TG15NH02; Manufacturer: Murata; Desc2: inductor_15nH_RF; Tolerance: +/- 3%; Remark: RF matching, use part number; Sort order: 206; HasBeenBuilt: TBD; HasBeenChecked: None; Package: 0201; Operating temperature range: -55°C ~ 125°C; ClassName: SMALL; ComponentLink1Description: 1_Datasheet; ComponentLink2Description: 2_Product page; Creation date: 20200101; ComponentLink3Description: 3_X-information; ComponentLink4Description: 4_X-information; Manufacturer Part Number: LQP03TG15NH02; Component Type: Inductor
footprint IND_0201_UN1Q (Chip Resistor, Body 0.6x0.3mm, IPC High Density)
pins: 1, 2